# Altium schematic symbol library Schlib1.SchLib: 16 symbols
Pins are listed as number, name and electrical type; pins without a type are passive.

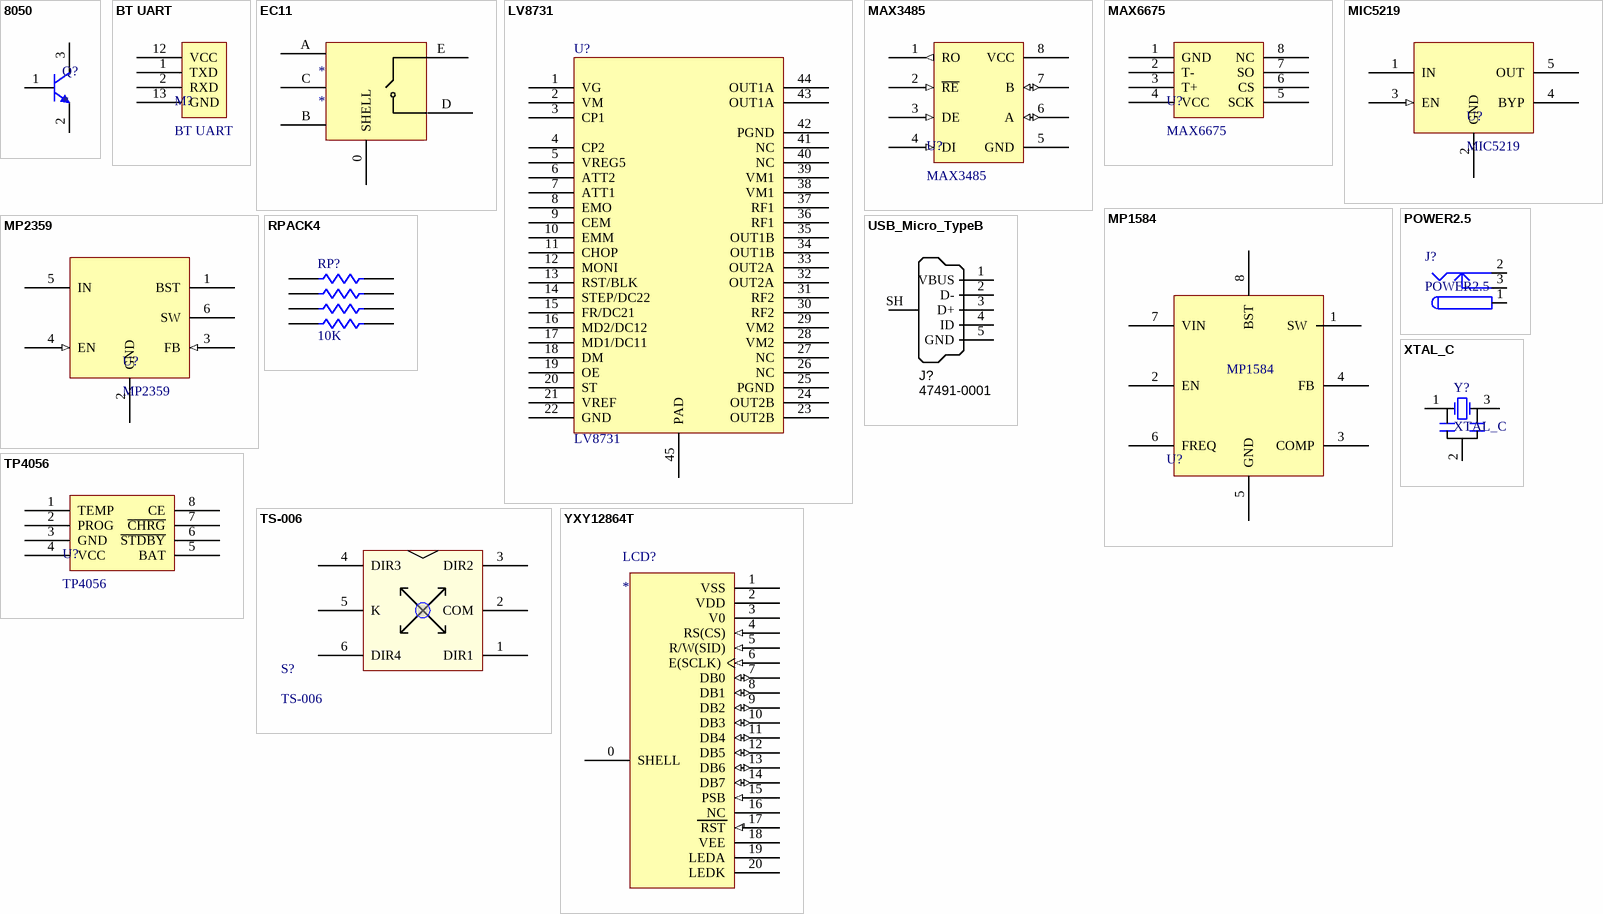
[diagram p0: symbols 8050 to YXY12864T]

## 8050
designator Q?
footprint SOT23B (SOT-23; 3 Leads; Body 3.0 x 2.6 mm, inc. leads (LxW max))
pins: 1 B, 2 E, 3 C

## BT UART
designator M?
pins: 1 TXD, 2 RXD, 12 VCC (power), 13 GND

## EC11
designator *
pins: 0 SHELL, A, B, C, D, E 25

## LV8731
designator U?
footprint SSOP44K (SOP, 44-Leads, Body 15.0x5.6mm (max), Pitch 0.65mm, IPC Low Density)
pins: 1 VG, 2 VM, 3 CP1, 4 CP2, 5 VREG5, 6 ATT2, 7 ATT1, 8 EMO, 9 CEM, 10 EMM, 11 CHOP, 12 MONI, 13 RST/BLK, 14 STEP/DC22, 15 FR/DC21, 16 MD2/DC12, 17 MD1/DC11, 18 DM, 19 OE, 20 ST, 21 VREF, 22 GND, 23 OUT2B, 24 OUT2B, 25 PGND, 26 NC, 27 NC, 28 VM2, 29 VM2, 30 RF2, 31 RF2, 32 OUT2A, 33 OUT2A, 34 OUT1B, 35 OUT1B, 36 RF1, 37 RF1, 38 VM1, 39 VM1, 40 NC, 41 NC, 42 PGND, 43 OUT1A, 44 OUT1A, 45 PAD

## MAX3485
designator U?
footprint SOP8 (Small Outline; 8 Leads; Body Width 4.3 mm; Pitch 1.27 mm)
pins: 1 RO (out), 2 ~{RE} (in), 3 DE (in), 4 DI (in), 5 GND (power), 6 A (io), 7 B (io), 8 VCC (power)

## MAX6675
designator U?
footprint SO8 (Small Outline; 8 Leads; Body Width 3.9 mm; Pitch 1.27 mm)
pins: 1 GND, 2 T-, 3 T+, 4 VCC, 5 SCK, 6 CS, 7 SO, 8 NC

## MIC5219
designator U?
500mA-Peak Output LDO Regulator
footprint SOT23-5
pins: 1 IN (power), 2 GND, 3 EN (in), 4 BYP, 5 OUT

## MP1584
designator U?  (value not drawn)
footprint MP1584 (SOIC, 8-Leads, Body 4.9x3.9mm (max), Pitch 1.27mm, IPC Medium Density)
pins: 1 SW, 2 EN, 3 COMP, 4 FB, 5 GND, 6 FREQ, 7 VIN, 8 BST

## MP2359
designator U?
1.2A, 24V, 1.4MHz  Step-Down Converter
footprint SOT23-6
pins: 1 BST, 2 GND, 3 FB (in), 4 EN (in), 5 IN (power), 6 SW (power)

## POWER2.5
designator J?
footprint DC_POWER
pins: 1, 2, 3

## RPACK4
designator RP?, comment 10K
footprint RESLINE4
footprint RP4
footprint 0805-4
footprint R0603x4 (Chip Resistor Array, (0603x4); SM; 8 Leads; Body 3.40 x 1.80 mm (LxW max))
pins: 1, 2, 3, 4, 5, 6, 7, 8

## TP4056
designator U?
footprint TP4056 (SOIC, 8-Leads, Body 4.9x3.9mm (max), Pitch 1.27mm, IPC Medium Density)
pins: 1 TEMP, 2 PROG, 3 GND, 4 VCC, 5 BAT, 6 ~{STDBY}, 7 ~{CHRG}, 8 CE

## TS-006
designator S?
footprint TS-006
pins: 1 DIR1, 2 COM, 3 DIR2, 4 DIR3, 5 K, 6 DIR4

## USB_Micro_TypeB
designator J?, comment Manufacturer Part Number 1: 47491-0001  (hidden comment: USB Micro Type B)
Connector SMD USB Micro Type B middle mount; Manufacturer 1: Molex Inc; SCDType: undef; Package / Case: SMD; Supplier 1: Digi-Key; Supplier Part Number 1: WM17142CT-ND
footprint MICRO USB 3D
pins: 1 VBUS, 2 D-, 3 D+, 4 ID, 5 GND, SH Shell

## XTAL_C
designator Y?
Crystal Oscillator; Published: 8-Jun-2000; LatestRevisionDate: 17-Jul-2002; LatestRevisionNote: Re-released for DXP Platform.; PackageReference: R38; Publisher: Altium Limited
simulation model XTAL (Spice Subcircuit)
footprint Crystal_C (含电容晶振，村田 3.)
pins: 1 OSC1, 2 GND, 3 OSC2

## YXY12864T
designator LCD?
pins: 0 SHELL (power), 1 VSS (power), 2 VDD (power), 3 V0 (power), 4 RS(CS) (in), 5 R/W(SID) (in), 6 E(SCLK) (in), 7 DB0 (io), 8 DB1 (io), 9 DB2 (io), 10 DB3 (io), 11 DB4 (io), 12 DB5 (io), 13 DB6 (io), 14 DB7 (io), 15 PSB (in), 16 NC, 17 RST (in), 18 VEE (power), 19 LEDA (power), 20 LEDK (power)